# EAGLE library part LM324 (library lm324)
LM324 Quad Op-Amp (DIP-14) Four identical op-amps with a shared V+ / V- supply. Gate-swappable (swaplevel=1 on every gate).
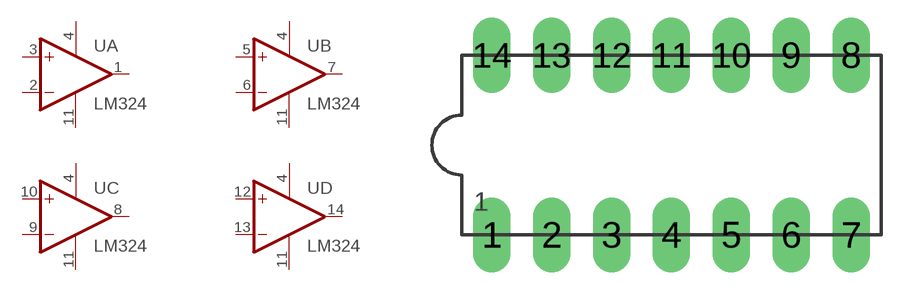
[diagram p0: symbol with the pads of DIP-14; footprint DIP-14]

Designator prefix U; gates A=OPAMP B=OPAMP C=OPAMP D=OPAMP

## LM324  [DIP-14]
1  A:OUT  out
2  A:IN-  in
3  A:IN+  in
4  A:V+  pwr
4  B:V+  pwr
4  C:V+  pwr
4  D:V+  pwr
5  B:IN+  in
6  B:IN-  in
7  B:OUT  out
8  C:OUT  out
9  C:IN-  in
10  C:IN+  in
11  A:V-  pwr
11  B:V-  pwr
11  C:V-  pwr
11  D:V-  pwr
12  D:IN+  in
13  D:IN-  in
14  D:OUT  out

## Footprint DIP-14 (pad centres in mm)
DIP-14 14-lead plastic dual-in-line, 2.54 mm pitch, 7.62 mm row spacing
drill 0.813 pad 1.6 long: 1 -7.62,-3.81; 2 -5.08,-3.81; 3 -2.54,-3.81; 4 0,-3.81; 5 2.54,-3.81; 6 5.08,-3.81; 7 7.62,-3.81; 8 7.62,3.81; 9 5.08,3.81; 10 2.54,3.81; 11 0,3.81; 12 -2.54,3.81; 13 -5.08,3.81; 14 -7.62,3.81